# Altium footprint library TerminalBlock_WAGO.PcbLib: 170 footprints (part 3 of 11)
Each footprint in its own frame and in the unit in brackets; x right, y up, seen from the top. Pads: shape width x height; smd on the part's side, far side on the other; paste and mask are expansions set on the pad; w line width, h text height; cw(c..) or ccw(c..) is an arc to the next point about the centre after c.
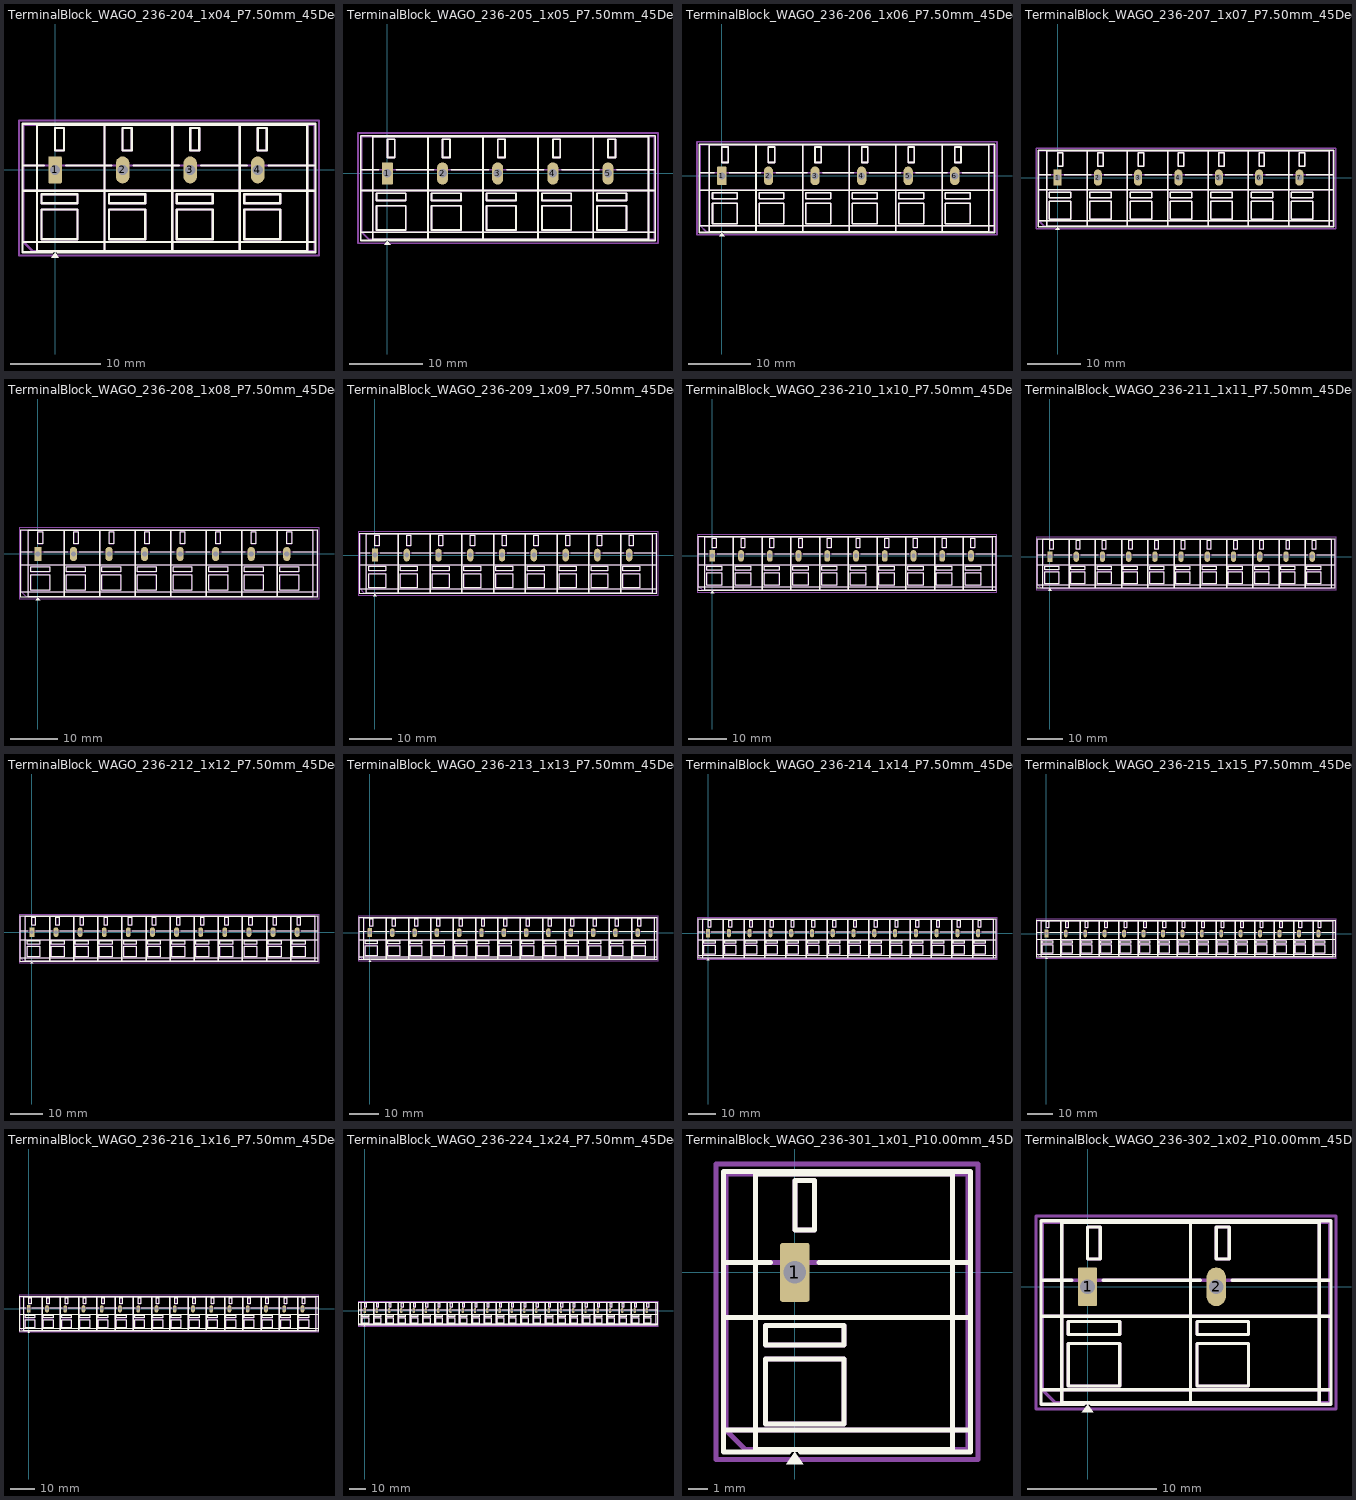
[diagram p2: the footprints below, top view; thin cyan lines are the x and y axes]

## TerminalBlock_WAGO_236-204_1x04_P7.50mm_45Degree [mm]
pads (4):
  rrect17% 1.5x3 hole 1.15: 1(0,0)
  rrect100% 1.5x3 hole 1.15: 2(7.5,0) 3(15,0) 4(22.5,0)
F.SilkS:
  region: 0.44,-9.73 -0.44,-9.73 0,-9.12
  lines w0.254: -3.62,-8 28.92,-8 ; -3.62,-2.3 28.92,-2.3 ; -3.62,0.5 -1.23,0.5 ; -0.3,-9.12 -3.62,-9.12 -3.62,5.12 28.92,5.12 28.92,-9.12 0.3,-9.12 ; 1.23,0.5 6.27,0.5 ; 8.73,0.5 13.77,0.5 ; 16.23,0.5 21.27,0.5 ; 23.73,0.5 28.92,0.5 ; 5.5,-9 5.5,5 ; 5.5,-9 -2,-9 -2,5 5.5,5 ; 5.5,-9 5.5,5 ; 5.5,-9 13,-9 ; 5.5,5 13,5 ; 13,-9 13,5 ; 13,-9 13,5 ; 13,-9 20.5,-9 ; 13,5 20.5,5 ; 20.5,-9 20.5,5 ; 20.5,-9 20.5,5 ; 20.5,-9 28,-9 28,5 20.5,5 ; -1.5,-7.7 -1.5,-4.4 2.5,-4.4 2.5,-7.7 -1.5,-7.7 ; -1.5,-3.7 -1.5,-2.7 2.5,-2.7 2.5,-3.7 -1.5,-3.7 ; 0,2.15 0,4.65 1,4.65 1,2.15 0,2.15 ; 6,-7.7 6,-4.4 10,-4.4 10,-7.7 6,-7.7 ; 6,-3.7 6,-2.7 10,-2.7 10,-3.7 6,-3.7 ; 7.5,2.15 7.5,4.65 8.5,4.65 8.5,2.15 7.5,2.15 ; 13.5,-7.7 13.5,-4.4 17.5,-4.4 17.5,-7.7 13.5,-7.7 ; 13.5,-3.7 13.5,-2.7 17.5,-2.7 17.5,-3.7 13.5,-3.7 ; 15,2.15 15,4.65 16,4.65 16,2.15 15,2.15 ; 21,-7.7 21,-4.4 25,-4.4 25,-7.7 21,-7.7 ; 21,-3.7 21,-2.7 25,-2.7 25,-3.7 21,-3.7 ; 22.5,2.15 22.5,4.65 23.5,4.65 23.5,2.15 22.5,2.15
F.Fab:
  lines w0.254: -3.5,-2.3 28.8,-2.3 ; -3.5,0.5 28.8,0.5 ; 28.8,-8 -3.5,-8 ; -3.5,-8 -3.5,5 28.8,5 28.8,-9 -2.5,-9 -3.5,-8 ; 5.5,-9 -2,-9 -2,5 5.5,5 ; 5.5,-9 5.5,5 ; 5.5,-9 5.5,5 ; 5.5,-9 13,-9 ; 5.5,5 13,5 ; 13,-9 13,5 ; 13,-9 13,5 ; 13,-9 20.5,-9 ; 13,5 20.5,5 ; 20.5,-9 20.5,5 ; 20.5,-9 20.5,5 ; 20.5,-9 28,-9 28,5 20.5,5 ; -1.5,-7.7 -1.5,-4.4 2.5,-4.4 2.5,-7.7 -1.5,-7.7 ; -1.5,-3.7 -1.5,-2.7 2.5,-2.7 2.5,-3.7 -1.5,-3.7 ; 0,2.15 0,4.65 1,4.65 1,2.15 0,2.15 ; 6,-7.7 6,-4.4 10,-4.4 10,-7.7 6,-7.7 ; 6,-3.7 6,-2.7 10,-2.7 10,-3.7 6,-3.7 ; 7.5,2.15 7.5,4.65 8.5,4.65 8.5,2.15 7.5,2.15 ; 13.5,-7.7 13.5,-4.4 17.5,-4.4 17.5,-7.7 13.5,-7.7 ; 13.5,-3.7 13.5,-2.7 17.5,-2.7 17.5,-3.7 13.5,-3.7 ; 15,2.15 15,4.65 16,4.65 16,2.15 15,2.15 ; 21,-7.7 21,-4.4 25,-4.4 25,-7.7 21,-7.7 ; 21,-3.7 21,-2.7 25,-2.7 25,-3.7 21,-3.7 ; 22.5,2.15 22.5,4.65 23.5,4.65 23.5,2.15 22.5,2.15
  text "'.Designator'" at 8.603,-1.84 h1
F.CrtYd:
  lines w0.254: -4,-9.5 -4,5.5 29.3,5.5 29.3,-9.5 -4,-9.5

## TerminalBlock_WAGO_236-205_1x05_P7.50mm_45Degree [mm]
pads (5):
  rrect17% 1.5x3 hole 1.15: 1(0,0)
  rrect100% 1.5x3 hole 1.15: 2(7.5,0) 3(15,0) 4(22.5,0) 5(30,0)
F.SilkS:
  region: 0.44,-9.73 -0.44,-9.73 0,-9.12
  lines w0.254: -3.62,-8 36.42,-8 ; -3.62,-2.3 36.42,-2.3 ; -3.62,0.5 -1.23,0.5 ; -0.3,-9.12 -3.62,-9.12 -3.62,5.12 36.42,5.12 36.42,-9.12 0.3,-9.12 ; 1.23,0.5 6.27,0.5 ; 8.73,0.5 13.77,0.5 ; 16.23,0.5 21.27,0.5 ; 23.73,0.5 28.77,0.5 ; 31.23,0.5 36.42,0.5 ; 5.5,-9 5.5,5 ; 5.5,-9 -2,-9 -2,5 5.5,5 ; 5.5,-9 5.5,5 ; 5.5,-9 13,-9 ; 5.5,5 13,5 ; 13,-9 13,5 ; 13,-9 13,5 ; 13,-9 20.5,-9 ; 13,5 20.5,5 ; 20.5,-9 20.5,5 ; 20.5,-9 20.5,5 ; 20.5,-9 28,-9 ; 20.5,5 28,5 ; 28,-9 28,5 ; 28,-9 28,5 ; 28,-9 35.5,-9 35.5,5 28,5 ; -1.5,-7.7 -1.5,-4.4 2.5,-4.4 2.5,-7.7 -1.5,-7.7 ; -1.5,-3.7 -1.5,-2.7 2.5,-2.7 2.5,-3.7 -1.5,-3.7 ; 0,2.15 0,4.65 1,4.65 1,2.15 0,2.15 ; 6,-7.7 6,-4.4 10,-4.4 10,-7.7 6,-7.7 ; 6,-3.7 6,-2.7 10,-2.7 10,-3.7 6,-3.7 ; 7.5,2.15 7.5,4.65 8.5,4.65 8.5,2.15 7.5,2.15 ; 13.5,-7.7 13.5,-4.4 17.5,-4.4 17.5,-7.7 13.5,-7.7 ; 13.5,-3.7 13.5,-2.7 17.5,-2.7 17.5,-3.7 13.5,-3.7 ; 15,2.15 15,4.65 16,4.65 16,2.15 15,2.15 ; 21,-7.7 21,-4.4 25,-4.4 25,-7.7 21,-7.7 ; 21,-3.7 21,-2.7 25,-2.7 25,-3.7 21,-3.7 ; 22.5,2.15 22.5,4.65 23.5,4.65 23.5,2.15 22.5,2.15 ; 28.5,-7.7 28.5,-4.4 32.5,-4.4 32.5,-7.7 28.5,-7.7 ; 28.5,-3.7 28.5,-2.7 32.5,-2.7 32.5,-3.7 28.5,-3.7 ; 30,2.15 30,4.65 31,4.65 31,2.15 30,2.15
F.Fab:
  lines w0.254: -3.5,-2.3 36.3,-2.3 ; -3.5,0.5 36.3,0.5 ; 36.3,-8 -3.5,-8 ; -3.5,-8 -3.5,5 36.3,5 36.3,-9 -2.5,-9 -3.5,-8 ; 5.5,-9 -2,-9 -2,5 5.5,5 ; 5.5,-9 5.5,5 ; 5.5,-9 5.5,5 ; 5.5,-9 13,-9 ; 5.5,5 13,5 ; 13,-9 13,5 ; 13,-9 13,5 ; 13,-9 20.5,-9 ; 13,5 20.5,5 ; 20.5,-9 20.5,5 ; 20.5,-9 20.5,5 ; 20.5,-9 28,-9 ; 20.5,5 28,5 ; 28,-9 28,5 ; 28,-9 28,5 ; 28,-9 35.5,-9 35.5,5 28,5 ; -1.5,-7.7 -1.5,-4.4 2.5,-4.4 2.5,-7.7 -1.5,-7.7 ; -1.5,-3.7 -1.5,-2.7 2.5,-2.7 2.5,-3.7 -1.5,-3.7 ; 0,2.15 0,4.65 1,4.65 1,2.15 0,2.15 ; 6,-7.7 6,-4.4 10,-4.4 10,-7.7 6,-7.7 ; 6,-3.7 6,-2.7 10,-2.7 10,-3.7 6,-3.7 ; 7.5,2.15 7.5,4.65 8.5,4.65 8.5,2.15 7.5,2.15 ; 13.5,-7.7 13.5,-4.4 17.5,-4.4 17.5,-7.7 13.5,-7.7 ; 13.5,-3.7 13.5,-2.7 17.5,-2.7 17.5,-3.7 13.5,-3.7 ; 15,2.15 15,4.65 16,4.65 16,2.15 15,2.15 ; 21,-7.7 21,-4.4 25,-4.4 25,-7.7 21,-7.7 ; 21,-3.7 21,-2.7 25,-2.7 25,-3.7 21,-3.7 ; 22.5,2.15 22.5,4.65 23.5,4.65 23.5,2.15 22.5,2.15 ; 28.5,-7.7 28.5,-4.4 32.5,-4.4 32.5,-7.7 28.5,-7.7 ; 28.5,-3.7 28.5,-2.7 32.5,-2.7 32.5,-3.7 28.5,-3.7 ; 30,2.15 30,4.65 31,4.65 31,2.15 30,2.15
  text "'.Designator'" at 12.353,-1.84 h1
F.CrtYd:
  lines w0.254: -4,-9.5 -4,5.5 36.8,5.5 36.8,-9.5 -4,-9.5

## TerminalBlock_WAGO_236-206_1x06_P7.50mm_45Degree [mm]
pads (6):
  rrect17% 1.5x3 hole 1.15: 1(0,0)
  rrect100% 1.5x3 hole 1.15: 2(7.5,0) 3(15,0) 4(22.5,0) 5(30,0) 6(37.5,0)
F.SilkS:
  region: 0.44,-9.73 -0.44,-9.73 0,-9.12
  lines w0.254: -3.62,-8 43.92,-8 ; -3.62,-2.3 43.92,-2.3 ; -3.62,0.5 -1.23,0.5 ; -0.3,-9.12 -3.62,-9.12 -3.62,5.12 43.92,5.12 43.92,-9.12 0.3,-9.12 ; 1.23,0.5 6.27,0.5 ; 8.73,0.5 13.77,0.5 ; 16.23,0.5 21.27,0.5 ; 23.73,0.5 28.77,0.5 ; 31.23,0.5 36.27,0.5 ; 38.73,0.5 43.92,0.5 ; 5.5,-9 5.5,5 ; 5.5,-9 -2,-9 -2,5 5.5,5 ; 5.5,-9 5.5,5 ; 5.5,-9 13,-9 ; 5.5,5 13,5 ; 13,-9 13,5 ; 13,-9 13,5 ; 13,-9 20.5,-9 ; 13,5 20.5,5 ; 20.5,-9 20.5,5 ; 20.5,-9 20.5,5 ; 20.5,-9 28,-9 ; 20.5,5 28,5 ; 28,-9 28,5 ; 28,-9 28,5 ; 28,-9 35.5,-9 ; 28,5 35.5,5 ; 35.5,-9 35.5,5 ; 35.5,-9 35.5,5 ; 35.5,-9 43,-9 43,5 35.5,5 ; -1.5,-7.7 -1.5,-4.4 2.5,-4.4 2.5,-7.7 -1.5,-7.7 ; -1.5,-3.7 -1.5,-2.7 2.5,-2.7 2.5,-3.7 -1.5,-3.7 ; 0,2.15 0,4.65 1,4.65 1,2.15 0,2.15 ; 6,-7.7 6,-4.4 10,-4.4 10,-7.7 6,-7.7 ; 6,-3.7 6,-2.7 10,-2.7 10,-3.7 6,-3.7 ; 7.5,2.15 7.5,4.65 8.5,4.65 8.5,2.15 7.5,2.15 ; 13.5,-7.7 13.5,-4.4 17.5,-4.4 17.5,-7.7 13.5,-7.7 ; 13.5,-3.7 13.5,-2.7 17.5,-2.7 17.5,-3.7 13.5,-3.7 ; 15,2.15 15,4.65 16,4.65 16,2.15 15,2.15 ; 21,-7.7 21,-4.4 25,-4.4 25,-7.7 21,-7.7 ; 21,-3.7 21,-2.7 25,-2.7 25,-3.7 21,-3.7 ; 22.5,2.15 22.5,4.65 23.5,4.65 23.5,2.15 22.5,2.15 ; 28.5,-7.7 28.5,-4.4 32.5,-4.4 32.5,-7.7 28.5,-7.7 ; 28.5,-3.7 28.5,-2.7 32.5,-2.7 32.5,-3.7 28.5,-3.7 ; 30,2.15 30,4.65 31,4.65 31,2.15 30,2.15 ; 36,-7.7 36,-4.4 40,-4.4 40,-7.7 36,-7.7 ; 36,-3.7 36,-2.7 40,-2.7 40,-3.7 36,-3.7 ; 37.5,2.15 37.5,4.65 38.5,4.65 38.5,2.15 37.5,2.15
F.Fab:
  lines w0.254: -3.5,-2.3 43.8,-2.3 ; -3.5,0.5 43.8,0.5 ; 43.8,-8 -3.5,-8 ; -3.5,-8 -3.5,5 43.8,5 43.8,-9 -2.5,-9 -3.5,-8 ; 5.5,-9 -2,-9 -2,5 5.5,5 ; 5.5,-9 5.5,5 ; 5.5,-9 5.5,5 ; 5.5,-9 13,-9 ; 5.5,5 13,5 ; 13,-9 13,5 ; 13,-9 13,5 ; 13,-9 20.5,-9 ; 13,5 20.5,5 ; 20.5,-9 20.5,5 ; 20.5,-9 20.5,5 ; 20.5,-9 28,-9 ; 20.5,5 28,5 ; 28,-9 28,5 ; 28,-9 28,5 ; 28,-9 35.5,-9 ; 28,5 35.5,5 ; 35.5,-9 35.5,5 ; 35.5,-9 35.5,5 ; 35.5,-9 43,-9 43,5 35.5,5 ; -1.5,-7.7 -1.5,-4.4 2.5,-4.4 2.5,-7.7 -1.5,-7.7 ; -1.5,-3.7 -1.5,-2.7 2.5,-2.7 2.5,-3.7 -1.5,-3.7 ; 0,2.15 0,4.65 1,4.65 1,2.15 0,2.15 ; 6,-7.7 6,-4.4 10,-4.4 10,-7.7 6,-7.7 ; 6,-3.7 6,-2.7 10,-2.7 10,-3.7 6,-3.7 ; 7.5,2.15 7.5,4.65 8.5,4.65 8.5,2.15 7.5,2.15 ; 13.5,-7.7 13.5,-4.4 17.5,-4.4 17.5,-7.7 13.5,-7.7 ; 13.5,-3.7 13.5,-2.7 17.5,-2.7 17.5,-3.7 13.5,-3.7 ; 15,2.15 15,4.65 16,4.65 16,2.15 15,2.15 ; 21,-7.7 21,-4.4 25,-4.4 25,-7.7 21,-7.7 ; 21,-3.7 21,-2.7 25,-2.7 25,-3.7 21,-3.7 ; 22.5,2.15 22.5,4.65 23.5,4.65 23.5,2.15 22.5,2.15 ; 28.5,-7.7 28.5,-4.4 32.5,-4.4 32.5,-7.7 28.5,-7.7 ; 28.5,-3.7 28.5,-2.7 32.5,-2.7 32.5,-3.7 28.5,-3.7 ; 30,2.15 30,4.65 31,4.65 31,2.15 30,2.15 ; 36,-7.7 36,-4.4 40,-4.4 40,-7.7 36,-7.7 ; 36,-3.7 36,-2.7 40,-2.7 40,-3.7 36,-3.7 ; 37.5,2.15 37.5,4.65 38.5,4.65 38.5,2.15 37.5,2.15
  text "'.Designator'" at 16.103,-1.84 h1
F.CrtYd:
  lines w0.254: -4,-9.5 -4,5.5 44.3,5.5 44.3,-9.5 -4,-9.5

## TerminalBlock_WAGO_236-207_1x07_P7.50mm_45Degree [mm]
pads (7):
  rrect17% 1.5x3 hole 1.15: 1(0,0)
  rrect100% 1.5x3 hole 1.15: 2(7.5,0) 3(15,0) 4(22.5,0) 5(30,0) 6(37.5,0) 7(45,0)
F.SilkS:
  region: 0.44,-9.73 -0.44,-9.73 0,-9.12
  lines w0.254: -3.62,-8 51.42,-8 ; -3.62,-2.3 51.42,-2.3 ; -3.62,0.5 -1.23,0.5 ; -0.3,-9.12 -3.62,-9.12 -3.62,5.12 51.42,5.12 51.42,-9.12 0.3,-9.12 ; 1.23,0.5 6.27,0.5 ; 8.73,0.5 13.77,0.5 ; 16.23,0.5 21.27,0.5 ; 23.73,0.5 28.77,0.5 ; 31.23,0.5 36.27,0.5 ; 38.73,0.5 43.77,0.5 ; 46.23,0.5 51.42,0.5 ; 5.5,-9 5.5,5 ; 5.5,-9 -2,-9 -2,5 5.5,5 ; 5.5,-9 5.5,5 ; 5.5,-9 13,-9 ; 5.5,5 13,5 ; 13,-9 13,5 ; 13,-9 13,5 ; 13,-9 20.5,-9 ; 13,5 20.5,5 ; 20.5,-9 20.5,5 ; 20.5,-9 20.5,5 ; 20.5,-9 28,-9 ; 20.5,5 28,5 ; 28,-9 28,5 ; 28,-9 28,5 ; 28,-9 35.5,-9 ; 28,5 35.5,5 ; 35.5,-9 35.5,5 ; 35.5,-9 35.5,5 ; 35.5,-9 43,-9 ; 35.5,5 43,5 ; 43,-9 43,5 ; 43,-9 43,5 ; 43,-9 50.5,-9 50.5,5 43,5 ; -1.5,-7.7 -1.5,-4.4 2.5,-4.4 2.5,-7.7 -1.5,-7.7 ; -1.5,-3.7 -1.5,-2.7 2.5,-2.7 2.5,-3.7 -1.5,-3.7 ; 0,2.15 0,4.65 1,4.65 1,2.15 0,2.15 ; 6,-7.7 6,-4.4 10,-4.4 10,-7.7 6,-7.7 ; 6,-3.7 6,-2.7 10,-2.7 10,-3.7 6,-3.7 ; 7.5,2.15 7.5,4.65 8.5,4.65 8.5,2.15 7.5,2.15 ; 13.5,-7.7 13.5,-4.4 17.5,-4.4 17.5,-7.7 13.5,-7.7 ; 13.5,-3.7 13.5,-2.7 17.5,-2.7 17.5,-3.7 13.5,-3.7 ; 15,2.15 15,4.65 16,4.65 16,2.15 15,2.15 ; 21,-7.7 21,-4.4 25,-4.4 25,-7.7 21,-7.7 ; 21,-3.7 21,-2.7 25,-2.7 25,-3.7 21,-3.7 ; 22.5,2.15 22.5,4.65 23.5,4.65 23.5,2.15 22.5,2.15 ; 28.5,-7.7 28.5,-4.4 32.5,-4.4 32.5,-7.7 28.5,-7.7 ; 28.5,-3.7 28.5,-2.7 32.5,-2.7 32.5,-3.7 28.5,-3.7 ; 30,2.15 30,4.65 31,4.65 31,2.15 30,2.15 ; 36,-7.7 36,-4.4 40,-4.4 40,-7.7 36,-7.7 ; 36,-3.7 36,-2.7 40,-2.7 40,-3.7 36,-3.7 ; 37.5,2.15 37.5,4.65 38.5,4.65 38.5,2.15 37.5,2.15 ; 43.5,-7.7 43.5,-4.4 47.5,-4.4 47.5,-7.7 43.5,-7.7 ; 43.5,-3.7 43.5,-2.7 47.5,-2.7 47.5,-3.7 43.5,-3.7 ; 45,2.15 45,4.65 46,4.65 46,2.15 45,2.15
F.Fab:
  lines w0.254: -3.5,-2.3 51.3,-2.3 ; -3.5,0.5 51.3,0.5 ; 51.3,-8 -3.5,-8 ; -3.5,-8 -3.5,5 51.3,5 51.3,-9 -2.5,-9 -3.5,-8 ; 5.5,-9 -2,-9 -2,5 5.5,5 ; 5.5,-9 5.5,5 ; 5.5,-9 5.5,5 ; 5.5,-9 13,-9 ; 5.5,5 13,5 ; 13,-9 13,5 ; 13,-9 13,5 ; 13,-9 20.5,-9 ; 13,5 20.5,5 ; 20.5,-9 20.5,5 ; 20.5,-9 20.5,5 ; 20.5,-9 28,-9 ; 20.5,5 28,5 ; 28,-9 28,5 ; 28,-9 28,5 ; 28,-9 35.5,-9 ; 28,5 35.5,5 ; 35.5,-9 35.5,5 ; 35.5,-9 35.5,5 ; 35.5,-9 43,-9 ; 35.5,5 43,5 ; 43,-9 43,5 ; 43,-9 43,5 ; 43,-9 50.5,-9 50.5,5 43,5 ; -1.5,-7.7 -1.5,-4.4 2.5,-4.4 2.5,-7.7 -1.5,-7.7 ; -1.5,-3.7 -1.5,-2.7 2.5,-2.7 2.5,-3.7 -1.5,-3.7 ; 0,2.15 0,4.65 1,4.65 1,2.15 0,2.15 ; 6,-7.7 6,-4.4 10,-4.4 10,-7.7 6,-7.7 ; 6,-3.7 6,-2.7 10,-2.7 10,-3.7 6,-3.7 ; 7.5,2.15 7.5,4.65 8.5,4.65 8.5,2.15 7.5,2.15 ; 13.5,-7.7 13.5,-4.4 17.5,-4.4 17.5,-7.7 13.5,-7.7 ; 13.5,-3.7 13.5,-2.7 17.5,-2.7 17.5,-3.7 13.5,-3.7 ; 15,2.15 15,4.65 16,4.65 16,2.15 15,2.15 ; 21,-7.7 21,-4.4 25,-4.4 25,-7.7 21,-7.7 ; 21,-3.7 21,-2.7 25,-2.7 25,-3.7 21,-3.7 ; 22.5,2.15 22.5,4.65 23.5,4.65 23.5,2.15 22.5,2.15 ; 28.5,-7.7 28.5,-4.4 32.5,-4.4 32.5,-7.7 28.5,-7.7 ; 28.5,-3.7 28.5,-2.7 32.5,-2.7 32.5,-3.7 28.5,-3.7 ; 30,2.15 30,4.65 31,4.65 31,2.15 30,2.15 ; 36,-7.7 36,-4.4 40,-4.4 40,-7.7 36,-7.7 ; 36,-3.7 36,-2.7 40,-2.7 40,-3.7 36,-3.7 ; 37.5,2.15 37.5,4.65 38.5,4.65 38.5,2.15 37.5,2.15 ; 43.5,-7.7 43.5,-4.4 47.5,-4.4 47.5,-7.7 43.5,-7.7 ; 43.5,-3.7 43.5,-2.7 47.5,-2.7 47.5,-3.7 43.5,-3.7 ; 45,2.15 45,4.65 46,4.65 46,2.15 45,2.15
  text "'.Designator'" at 19.853,-1.84 h1
F.CrtYd:
  lines w0.254: -4,-9.5 -4,5.5 51.8,5.5 51.8,-9.5 -4,-9.5

## TerminalBlock_WAGO_236-208_1x08_P7.50mm_45Degree [mm]
pads (8):
  rrect17% 1.5x3 hole 1.15: 1(0,0)
  rrect100% 1.5x3 hole 1.15: 2(7.5,0) 3(15,0) 4(22.5,0) 5(30,0) 6(37.5,0) 7(45,0) 8(52.5,0)
F.SilkS:
  region: 0.44,-9.73 -0.44,-9.73 0,-9.12
  lines w0.254: -3.62,-8 58.92,-8 ; -3.62,-2.3 58.92,-2.3 ; -3.62,0.5 -1.23,0.5 ; -0.3,-9.12 -3.62,-9.12 -3.62,5.12 58.92,5.12 58.92,-9.12 0.3,-9.12 ; 1.23,0.5 6.27,0.5 ; 8.73,0.5 13.77,0.5 ; 16.23,0.5 21.27,0.5 ; 23.73,0.5 28.77,0.5 ; 31.23,0.5 36.27,0.5 ; 38.73,0.5 43.77,0.5 ; 46.23,0.5 51.27,0.5 ; 53.73,0.5 58.92,0.5 ; 5.5,-9 5.5,5 ; 5.5,-9 -2,-9 -2,5 5.5,5 ; 5.5,-9 5.5,5 ; 5.5,-9 13,-9 ; 5.5,5 13,5 ; 13,-9 13,5 ; 13,-9 13,5 ; 13,-9 20.5,-9 ; 13,5 20.5,5 ; 20.5,-9 20.5,5 ; 20.5,-9 20.5,5 ; 20.5,-9 28,-9 ; 20.5,5 28,5 ; 28,-9 28,5 ; 28,-9 28,5 ; 28,-9 35.5,-9 ; 28,5 35.5,5 ; 35.5,-9 35.5,5 ; 35.5,-9 35.5,5 ; 35.5,-9 43,-9 ; 35.5,5 43,5 ; 43,-9 43,5 ; 43,-9 43,5 ; 43,-9 50.5,-9 ; 43,5 50.5,5 ; 50.5,-9 50.5,5 ; 50.5,-9 50.5,5 ; 50.5,-9 58,-9 58,5 50.5,5 ; -1.5,-7.7 -1.5,-4.4 2.5,-4.4 2.5,-7.7 -1.5,-7.7 ; -1.5,-3.7 -1.5,-2.7 2.5,-2.7 2.5,-3.7 -1.5,-3.7 ; 0,2.15 0,4.65 1,4.65 1,2.15 0,2.15 ; 6,-7.7 6,-4.4 10,-4.4 10,-7.7 6,-7.7 ; 6,-3.7 6,-2.7 10,-2.7 10,-3.7 6,-3.7 ; 7.5,2.15 7.5,4.65 8.5,4.65 8.5,2.15 7.5,2.15 ; 13.5,-7.7 13.5,-4.4 17.5,-4.4 17.5,-7.7 13.5,-7.7 ; 13.5,-3.7 13.5,-2.7 17.5,-2.7 17.5,-3.7 13.5,-3.7 ; 15,2.15 15,4.65 16,4.65 16,2.15 15,2.15 ; 21,-7.7 21,-4.4 25,-4.4 25,-7.7 21,-7.7 ; 21,-3.7 21,-2.7 25,-2.7 25,-3.7 21,-3.7 ; 22.5,2.15 22.5,4.65 23.5,4.65 23.5,2.15 22.5,2.15 ; 28.5,-7.7 28.5,-4.4 32.5,-4.4 32.5,-7.7 28.5,-7.7 ; 28.5,-3.7 28.5,-2.7 32.5,-2.7 32.5,-3.7 28.5,-3.7 ; 30,2.15 30,4.65 31,4.65 31,2.15 30,2.15 ; 36,-7.7 36,-4.4 40,-4.4 40,-7.7 36,-7.7 ; 36,-3.7 36,-2.7 40,-2.7 40,-3.7 36,-3.7 ; 37.5,2.15 37.5,4.65 38.5,4.65 38.5,2.15 37.5,2.15 ; 43.5,-7.7 43.5,-4.4 47.5,-4.4 47.5,-7.7 43.5,-7.7 ; 43.5,-3.7 43.5,-2.7 47.5,-2.7 47.5,-3.7 43.5,-3.7 ; 45,2.15 45,4.65 46,4.65 46,2.15 45,2.15 ; 51,-7.7 51,-4.4 55,-4.4 55,-7.7 51,-7.7 ; 51,-3.7 51,-2.7 55,-2.7 55,-3.7 51,-3.7 ; 52.5,2.15 52.5,4.65 53.5,4.65 53.5,2.15 52.5,2.15
F.Fab:
  lines w0.254: -3.5,-2.3 58.8,-2.3 ; -3.5,0.5 58.8,0.5 ; 58.8,-8 -3.5,-8 ; -3.5,-8 -3.5,5 58.8,5 58.8,-9 -2.5,-9 -3.5,-8 ; 5.5,-9 -2,-9 -2,5 5.5,5 ; 5.5,-9 5.5,5 ; 5.5,-9 5.5,5 ; 5.5,-9 13,-9 ; 5.5,5 13,5 ; 13,-9 13,5 ; 13,-9 13,5 ; 13,-9 20.5,-9 ; 13,5 20.5,5 ; 20.5,-9 20.5,5 ; 20.5,-9 20.5,5 ; 20.5,-9 28,-9 ; 20.5,5 28,5 ; 28,-9 28,5 ; 28,-9 28,5 ; 28,-9 35.5,-9 ; 28,5 35.5,5 ; 35.5,-9 35.5,5 ; 35.5,-9 35.5,5 ; 35.5,-9 43,-9 ; 35.5,5 43,5 ; 43,-9 43,5 ; 43,-9 43,5 ; 43,-9 50.5,-9 ; 43,5 50.5,5 ; 50.5,-9 50.5,5 ; 50.5,-9 50.5,5 ; 50.5,-9 58,-9 58,5 50.5,5 ; -1.5,-7.7 -1.5,-4.4 2.5,-4.4 2.5,-7.7 -1.5,-7.7 ; -1.5,-3.7 -1.5,-2.7 2.5,-2.7 2.5,-3.7 -1.5,-3.7 ; 0,2.15 0,4.65 1,4.65 1,2.15 0,2.15 ; 6,-7.7 6,-4.4 10,-4.4 10,-7.7 6,-7.7 ; 6,-3.7 6,-2.7 10,-2.7 10,-3.7 6,-3.7 ; 7.5,2.15 7.5,4.65 8.5,4.65 8.5,2.15 7.5,2.15 ; 13.5,-7.7 13.5,-4.4 17.5,-4.4 17.5,-7.7 13.5,-7.7 ; 13.5,-3.7 13.5,-2.7 17.5,-2.7 17.5,-3.7 13.5,-3.7 ; 15,2.15 15,4.65 16,4.65 16,2.15 15,2.15 ; 21,-7.7 21,-4.4 25,-4.4 25,-7.7 21,-7.7 ; 21,-3.7 21,-2.7 25,-2.7 25,-3.7 21,-3.7 ; 22.5,2.15 22.5,4.65 23.5,4.65 23.5,2.15 22.5,2.15 ; 28.5,-7.7 28.5,-4.4 32.5,-4.4 32.5,-7.7 28.5,-7.7 ; 28.5,-3.7 28.5,-2.7 32.5,-2.7 32.5,-3.7 28.5,-3.7 ; 30,2.15 30,4.65 31,4.65 31,2.15 30,2.15 ; 36,-7.7 36,-4.4 40,-4.4 40,-7.7 36,-7.7 ; 36,-3.7 36,-2.7 40,-2.7 40,-3.7 36,-3.7 ; 37.5,2.15 37.5,4.65 38.5,4.65 38.5,2.15 37.5,2.15 ; 43.5,-7.7 43.5,-4.4 47.5,-4.4 47.5,-7.7 43.5,-7.7 ; 43.5,-3.7 43.5,-2.7 47.5,-2.7 47.5,-3.7 43.5,-3.7 ; 45,2.15 45,4.65 46,4.65 46,2.15 45,2.15 ; 51,-7.7 51,-4.4 55,-4.4 55,-7.7 51,-7.7 ; 51,-3.7 51,-2.7 55,-2.7 55,-3.7 51,-3.7 ; 52.5,2.15 52.5,4.65 53.5,4.65 53.5,2.15 52.5,2.15
  text "'.Designator'" at 23.603,-1.84 h1
F.CrtYd:
  lines w0.254: -4,-9.5 -4,5.5 59.3,5.5 59.3,-9.5 -4,-9.5

## TerminalBlock_WAGO_236-209_1x09_P7.50mm_45Degree [mm]
pads (9):
  rrect17% 1.5x3 hole 1.15: 1(0,0)
  rrect100% 1.5x3 hole 1.15: 2(7.5,0) 3(15,0) 4(22.5,0) 5(30,0) 6(37.5,0) 7(45,0) 8(52.5,0) 9(60,0)
F.SilkS:
  drawing of 162 lines, arcs and shapes, not listed
F.Fab:
  drawing of 152 lines, arcs and shapes, not listed
  text "'.Designator'" at 27.353,-1.84 h1
F.CrtYd:
  lines w0.254: -4,-9.5 -4,5.5 66.8,5.5 66.8,-9.5 -4,-9.5

## TerminalBlock_WAGO_236-210_1x10_P7.50mm_45Degree [mm]
pads (10):
  rrect17% 1.5x3 hole 1.15: 1(0,0)
  rrect100% 1.5x3 hole 1.15: 2(7.5,0) 3(15,0) 4(22.5,0) 5(30,0) 6(37.5,0) 7(45,0) 8(52.5,0) 9(60,0) 10(67.5,0)
F.SilkS:
  drawing of 179 lines, arcs and shapes, not listed
F.Fab:
  drawing of 168 lines, arcs and shapes, not listed
  text "'.Designator'" at 31.103,-1.84 h1
F.CrtYd:
  lines w0.254: -4,-9.5 -4,5.5 74.3,5.5 74.3,-9.5 -4,-9.5

## TerminalBlock_WAGO_236-211_1x11_P7.50mm_45Degree [mm]
pads (11):
  rrect17% 1.5x3 hole 1.15: 1(0,0)
  rrect100% 1.5x3 hole 1.15: 2(7.5,0) 3(15,0) 4(22.5,0) 5(30,0) 6(37.5,0) 7(45,0) 8(52.5,0) 9(60,0) 10(67.5,0) 11(75,0)
F.SilkS:
  drawing of 196 lines, arcs and shapes, not listed
F.Fab:
  drawing of 184 lines, arcs and shapes, not listed
  text "'.Designator'" at 34.853,-1.84 h1
F.CrtYd:
  lines w0.254: -4,-9.5 -4,5.5 81.8,5.5 81.8,-9.5 -4,-9.5

## TerminalBlock_WAGO_236-212_1x12_P7.50mm_45Degree [mm]
pads (12):
  rrect17% 1.5x3 hole 1.15: 1(0,0)
  rrect100% 1.5x3 hole 1.15: 2(7.5,0) 3(15,0) 4(22.5,0) 5(30,0) 6(37.5,0) 7(45,0) 8(52.5,0) 9(60,0) 10(67.5,0) 11(75,0) 12(82.5,0)
F.SilkS:
  drawing of 213 lines, arcs and shapes, not listed
F.Fab:
  drawing of 200 lines, arcs and shapes, not listed
  text "'.Designator'" at 38.603,-1.84 h1
F.CrtYd:
  lines w0.254: -4,-9.5 -4,5.5 89.3,5.5 89.3,-9.5 -4,-9.5

## TerminalBlock_WAGO_236-213_1x13_P7.50mm_45Degree [mm]
pads (13):
  rrect17% 1.5x3 hole 1.15: 1(0,0)
  rrect100% 1.5x3 hole 1.15: 2(7.5,0) 3(15,0) 4(22.5,0) 5(30,0) 6(37.5,0) 7(45,0) 8(52.5,0) 9(60,0) 10(67.5,0) 11(75,0) 12(82.5,0) 13(90,0)
F.SilkS:
  drawing of 230 lines, arcs and shapes, not listed
F.Fab:
  drawing of 216 lines, arcs and shapes, not listed
  text "'.Designator'" at 42.353,-1.84 h1
F.CrtYd:
  lines w0.254: -4,-9.5 -4,5.5 96.8,5.5 96.8,-9.5 -4,-9.5

## TerminalBlock_WAGO_236-214_1x14_P7.50mm_45Degree [mm]
pads (14):
  rrect17% 1.5x3 hole 1.15: 1(0,0)
  rrect100% 1.5x3 hole 1.15: 2(7.5,0) 3(15,0) 4(22.5,0) 5(30,0) 6(37.5,0) 7(45,0) 8(52.5,0) 9(60,0) 10(67.5,0) 11(75,0) 12(82.5,0) 13(90,0) 14(97.5,0)
F.SilkS:
  drawing of 247 lines, arcs and shapes, not listed
F.Fab:
  drawing of 232 lines, arcs and shapes, not listed
  text "'.Designator'" at 46.103,-1.84 h1
F.CrtYd:
  lines w0.254: -4,-9.5 -4,5.5 104.3,5.5 104.3,-9.5 -4,-9.5

## TerminalBlock_WAGO_236-215_1x15_P7.50mm_45Degree [mm]
pads (15):
  rrect17% 1.5x3 hole 1.15: 1(0,0)
  rrect100% 1.5x3 hole 1.15: 2(7.5,0) 3(15,0) 4(22.5,0) 5(30,0) 6(37.5,0) 7(45,0) 8(52.5,0) 9(60,0) 10(67.5,0) 11(75,0) 12(82.5,0) 13(90,0) 14(97.5,0) 15(105,0)
F.SilkS:
  drawing of 264 lines, arcs and shapes, not listed
F.Fab:
  drawing of 248 lines, arcs and shapes, not listed
  text "'.Designator'" at 49.853,-1.84 h1
F.CrtYd:
  lines w0.254: -4,-9.5 -4,5.5 111.8,5.5 111.8,-9.5 -4,-9.5

## TerminalBlock_WAGO_236-216_1x16_P7.50mm_45Degree [mm]
pads (16):
  rrect17% 1.5x3 hole 1.15: 1(0,0)
  rrect100% 1.5x3 hole 1.15: 2(7.5,0) 3(15,0) 4(22.5,0) 5(30,0) 6(37.5,0) 7(45,0) 8(52.5,0) 9(60,0) 10(67.5,0) 11(75,0) 12(82.5,0) 13(90,0) 14(97.5,0) 15(105,0) 16(112.5,0)
F.SilkS:
  drawing of 281 lines, arcs and shapes, not listed
F.Fab:
  drawing of 264 lines, arcs and shapes, not listed
  text "'.Designator'" at 53.603,-1.84 h1
F.CrtYd:
  lines w0.254: -4,-9.5 -4,5.5 119.3,5.5 119.3,-9.5 -4,-9.5

## TerminalBlock_WAGO_236-224_1x24_P7.50mm_45Degree [mm]
pads (24):
  rrect17% 1.5x3 hole 1.15: 1(0,0)
  rrect100% 1.5x3 hole 1.15: 2(7.5,0) 3(15,0) 4(22.5,0) 5(30,0) 6(37.5,0) 7(45,0) 8(52.5,0) 9(60,0) 10(67.5,0) 11(75,0) 12(82.5,0) 13(90,0) 14(97.5,0) 15(105,0) 16(112.5,0) 17(120,0) 18(127.5,0) 19(135,0) 20(142.5,0) 21(150,0) 22(157.5,0) 23(165,0) 24(172.5,0)
F.SilkS:
  drawing of 417 lines, arcs and shapes, not listed
F.Fab:
  drawing of 392 lines, arcs and shapes, not listed
  text "'.Designator'" at 83.603,-1.84 h1
F.CrtYd:
  lines w0.254: -4,-9.5 -4,5.5 179.3,5.5 179.3,-9.5 -4,-9.5

## TerminalBlock_WAGO_236-301_1x01_P10.00mm_45Degree [mm]
pads (1):
  rrect17% 1.5x3 hole 1.15: 1(0,0)
F.SilkS:
  region: 0.44,-9.73 -0.44,-9.73 0,-9.12
  lines w0.254: -3.62,-8 8.92,-8 ; -3.62,-2.3 8.92,-2.3 ; -3.62,0.5 -1.23,0.5 ; -0.3,-9.12 -3.62,-9.12 -3.62,5.12 8.92,5.12 8.92,-9.12 0.3,-9.12 ; 1.23,0.5 8.92,0.5 ; -2,-9 -2,5 8,5 8,-9 -2,-9 ; -1.5,-7.7 -1.5,-4.4 2.5,-4.4 2.5,-7.7 -1.5,-7.7 ; -1.5,-3.7 -1.5,-2.7 2.5,-2.7 2.5,-3.7 -1.5,-3.7 ; 0,2.15 0,4.65 1,4.65 1,2.15 0,2.15
F.Fab:
  lines w0.254: -3.5,-2.3 8.8,-2.3 ; -3.5,0.5 8.8,0.5 ; 8.8,-8 -3.5,-8 ; -3.5,-8 -3.5,5 8.8,5 8.8,-9 -2.5,-9 -3.5,-8 ; -2,-9 -2,5 8,5 8,-9 -2,-9 ; -1.5,-7.7 -1.5,-4.4 2.5,-4.4 2.5,-7.7 -1.5,-7.7 ; -1.5,-3.7 -1.5,-2.7 2.5,-2.7 2.5,-3.7 -1.5,-3.7 ; 0,2.15 0,4.65 1,4.65 1,2.15 0,2.15
  text "'.Designator'" at -1.397,-1.84 h1
F.CrtYd:
  lines w0.254: -4,-9.5 -4,5.5 9.3,5.5 9.3,-9.5 -4,-9.5

## TerminalBlock_WAGO_236-302_1x02_P10.00mm_45Degree [mm]
pads (2):
  rrect17% 1.5x3 hole 1.15: 1(0,0)
  rrect100% 1.5x3 hole 1.15: 2(10,0)
F.SilkS:
  region: 0.44,-9.73 -0.44,-9.73 0,-9.12
  lines w0.254: -3.62,-8 18.92,-8 ; -3.62,-2.3 18.92,-2.3 ; -3.62,0.5 -1.23,0.5 ; -0.3,-9.12 -3.62,-9.12 -3.62,5.12 18.92,5.12 18.92,-9.12 0.3,-9.12 ; 1.23,0.5 8.77,0.5 ; 11.23,0.5 18.92,0.5 ; 8,-9 8,5 ; 8,-9 -2,-9 -2,5 8,5 ; 8,-9 8,5 ; 8,-9 18,-9 18,5 8,5 ; -1.5,-7.7 -1.5,-4.4 2.5,-4.4 2.5,-7.7 -1.5,-7.7 ; -1.5,-3.7 -1.5,-2.7 2.5,-2.7 2.5,-3.7 -1.5,-3.7 ; 0,2.15 0,4.65 1,4.65 1,2.15 0,2.15 ; 8.5,-7.7 8.5,-4.4 12.5,-4.4 12.5,-7.7 8.5,-7.7 ; 8.5,-3.7 8.5,-2.7 12.5,-2.7 12.5,-3.7 8.5,-3.7 ; 10,2.15 10,4.65 11,4.65 11,2.15 10,2.15
F.Fab:
  lines w0.254: -3.5,-2.3 18.8,-2.3 ; -3.5,0.5 18.8,0.5 ; 18.8,-8 -3.5,-8 ; -3.5,-8 -3.5,5 18.8,5 18.8,-9 -2.5,-9 -3.5,-8 ; 8,-9 -2,-9 -2,5 8,5 ; 8,-9 8,5 ; 8,-9 8,5 ; 8,-9 18,-9 18,5 8,5 ; -1.5,-7.7 -1.5,-4.4 2.5,-4.4 2.5,-7.7 -1.5,-7.7 ; -1.5,-3.7 -1.5,-2.7 2.5,-2.7 2.5,-3.7 -1.5,-3.7 ; 0,2.15 0,4.65 1,4.65 1,2.15 0,2.15 ; 8.5,-7.7 8.5,-4.4 12.5,-4.4 12.5,-7.7 8.5,-7.7 ; 8.5,-3.7 8.5,-2.7 12.5,-2.7 12.5,-3.7 8.5,-3.7 ; 10,2.15 10,4.65 11,4.65 11,2.15 10,2.15
  text "'.Designator'" at 3.603,-1.84 h1
F.CrtYd:
  lines w0.254: -4,-9.5 -4,5.5 19.3,5.5 19.3,-9.5 -4,-9.5